# Altium footprint library common.PCBLIB: 88 footprints (part 3 of 6)
Each footprint in its own frame and in the unit in brackets; x right, y up, seen from the top. Pads: shape width x height; smd on the part's side, far side on the other; paste and mask are expansions set on the pad; w line width, h text height; cw(c..) or ccw(c..) is an arc to the next point about the centre after c.
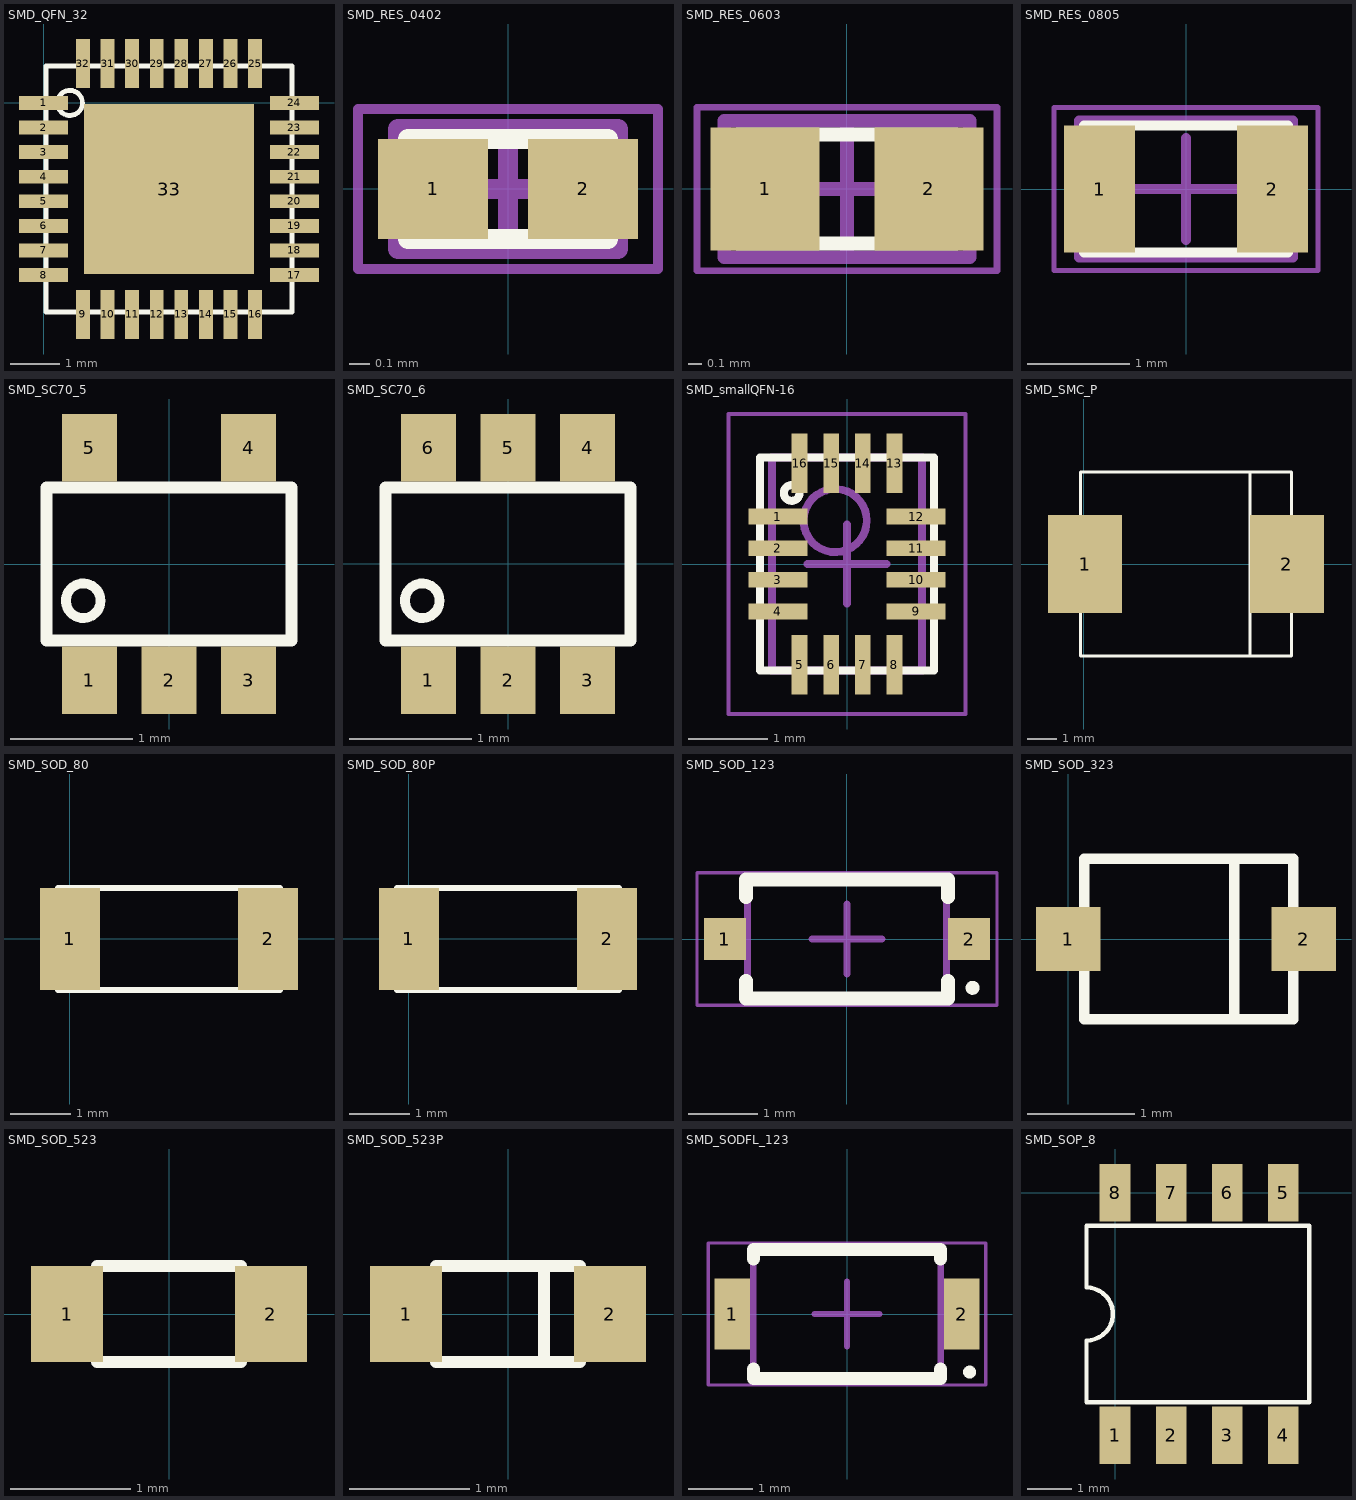
[diagram p2: the footprints below, top view; thin cyan lines are the x and y axes]

## SMD_QFN_32 [mm]
pads (33):
  rect 1x0.28 smd mask+0.05: 1(0,0) 2(0,-0.5) 3(0,-1) 4(0,-1.5) 5(0,-2) 6(0,-2.5) 7(0,-3) 8(0,-3.5) 17(5.1,-3.5) 18(5.1,-3) 19(5.1,-2.5) 20(5.1,-2) 21(5.1,-1.5) 22(5.1,-1) 23(5.1,-0.5) 24(5.1,0)
  rect 0.28x1 smd mask+0.05: 9(0.8,-4.3) 10(1.3,-4.3) 11(1.8,-4.3) 12(2.3,-4.3) 13(2.8,-4.3) 14(3.3,-4.3) 15(3.8,-4.3) 16(4.3,-4.3) 25(4.3,0.8) 26(3.8,0.8) 27(3.3,0.8) 28(2.8,0.8) 29(2.3,0.8) 30(1.8,0.8) 31(1.3,0.8) 32(0.8,0.8)
  rect 3.45x3.45 smd: 33(2.55,-1.75)
Top Overlay:
  circle w0.1: c0.535,0 r0.255
  lines w0.1: 0.05,-4.25 0.05,0.75 5.05,0.75 5.05,-4.25 0.05,-4.25

## SMD_RES_0402 [mm]
height 0.4
pads (2):
  rect 0.55x0.5 smd: 1(-0.375,0) 2(0.375,0)
Top Overlay:
  lines w0.1: -0.5,-0.25 -0.5,0.25 0.5,0.25 0.5,-0.25 -0.5,-0.25
Mechanical 13:
  lines w0.1: -0.55,-0.3 0.55,-0.3 0.55,0.3 -0.55,0.3 -0.55,-0.3
Mechanical 15:
  lines w0.05: -0.75,-0.4 0.75,-0.4 0.75,0.4 -0.75,0.4 -0.75,-0.4
  lines w0.1: -0.3,0 0.3,0 ; 0,-0.3 0,0.3
3D body: height 0.4, standoff 0, extent 0.3,-0.3 0.55,0.3
3D body: height 0.4, standoff 0, extent -0.55,-0.3 -0.3,0.3
3D body: height 0.4, standoff 0, extent -0.3,-0.3 0.3,0.3

## SMD_RES_0603 [mm]
pads (2):
  rect 0.8x0.9 smd: 1(-0.6,0) 2(0.6,0)
Top Overlay:
  lines w0.1: -0.8,-0.4 -0.8,0.4 0.8,0.4 0.8,-0.4 -0.8,-0.4
Mechanical 13:
  lines w0.1: -0.9,-0.5 0.9,-0.5 0.9,0.5 -0.9,0.5 -0.9,-0.5
Mechanical 15:
  lines w0.05: -1.1,-0.6 1.1,-0.6 1.1,0.6 -1.1,0.6 -1.1,-0.6
  lines w0.1: -0.5,0 0.5,0 ; 0,-0.5 0,0.5
3D body: height 0.55, standoff 0, extent 0.6,-0.5 0.9,0.5
3D body: height 0.55, standoff 0, extent -0.9,-0.5 -0.6,0.5
3D body: height 0.55, standoff 0, extent -0.6,-0.5 0.6,0.5

## SMD_RES_0805 [mm]
height 0.6
pads (2):
  rect 0.7x1.25 smd: 1(-0.85,0) 2(0.85,0)
Top Overlay:
  lines w0.1: -1,-0.625 -1,0.625 1,0.625 1,-0.625 -1,-0.625
Mechanical 13:
  lines w0.1: -1.05,-0.675 1.05,-0.675 1.05,0.675 -1.05,0.675 -1.05,-0.675
Mechanical 15:
  lines w0.05: -1.3,-0.8 1.3,-0.8 1.3,0.8 -1.3,0.8 -1.3,-0.8
  lines w0.1: -0.5,0 0.5,0 ; 0,-0.5 0,0.5
3D body: height 0.6, standoff 0, extent 0.7,-0.675 1.05,0.675
3D body: height 0.6, standoff 0, extent -1.05,-0.675 -0.7,0.675
3D body: height 0.6, standoff 0, extent -0.7,-0.675 0.7,0.675

## SMD_SC70_5 [mm] "SMD_SC70_5"
height 0.95
pads (5):
  rect 0.45x0.55 smd: 1(-0.65,-0.95) 2(0,-0.95) 3(0.65,-0.95) 4(0.65,0.95) 5(-0.65,0.95)
Top Overlay:
  circle w0.08: c-0.7,-0.3 r0.141
  lines w0.1: -1,-0.625 -1,0.625 1,0.625 1,-0.625 -1,-0.625

## SMD_SC70_6 [mm] "SMD_SC70_6"
height 0.95
pads (6):
  rect 0.45x0.55 smd: 1(-0.65,-0.95) 2(0,-0.95) 3(0.65,-0.95) 4(0.65,0.95) 5(0,0.95) 6(-0.65,0.95)
Top Overlay:
  circle w0.08: c-0.7,-0.3 r0.141
  lines w0.1: -1,-0.625 -1,0.625 1,0.625 1,-0.625 -1,-0.625

## SMD_smallQFN-16 [mm] "QFN, 16-Leads, Body 1.80x2.60mm, Pitch 0.40mm, IPC Medium Density"
height 0.6
pads (16):
  rect 0.75x0.2 smd: 1(-0.875,0.6) 2(-0.875,0.2) 3(-0.875,-0.2) 4(-0.875,-0.6) 9(0.875,-0.6) 10(0.875,-0.2) 11(0.875,0.2) 12(0.875,0.6)
  rect 0.2x0.75 smd: 5(-0.6,-1.275) 6(-0.2,-1.275) 7(0.2,-1.275) 8(0.6,-1.275) 13(0.6,1.275) 14(0.2,1.275) 15(-0.2,1.275) 16(-0.6,1.275)
Top Overlay:
  circle w0.1: c-0.7,0.9 r0.1
  lines w0.1: -1.1,-1.35 -1.1,1.35 1.1,1.35 1.1,-1.35 -1.1,-1.35
Mechanical 13:
  circle w0.1: c-0.15,0.55 r0.4
  lines w0.1: -0.95,-1.35 -0.95,1.35 0.95,1.35 0.95,-1.35 -0.95,-1.35
Mechanical 15:
  lines w0.05: -1.5,-1.9 -1.5,1.9 1.5,1.9 1.5,-1.9 -1.5,-1.9
  lines w0.1: -0.5,0 0.5,0 ; 0,-0.5 0,0.5
3D body: height 0.6, standoff 0.01, extent -0.95,-1.35 0.95,1.35

## SMD_SMC_P [mm] "SMD_SMC (polarized)"
height 2.5
pads (2):
  rect 2.5x3.3 smd: 1(0.05,0) 2(6.85,0)
Top Overlay:
  lines w0.1: 5.6,-3.05 5.6,3.1 ; -0.1,-3.1 7,-3.1 7,3.1 -0.1,3.1 -0.1,-3.1

## SMD_SOD_80 [mm] "SMD_SOD_80"
pads (2):
  rect 1x1.7 smd: 1(0,0) 2(3.3,0)
Top Overlay:
  lines w0.1: -0.2,-0.85 3.5,-0.85 3.5,0.85 -0.2,0.85 -0.2,-0.85

## SMD_SOD_80P [mm] "SMD_SOD_80P"
pads (2):
  rect 1x1.7 smd: 1(0,0) 2(3.3,0)
Top Overlay:
  lines w0.1: 2.925,-0.85 2.925,0.85 ; -0.2,-0.85 3.5,-0.85 3.5,0.85 -0.2,0.85 -0.2,-0.85

## SMD_SOD_123 [mm]
height 1.35
pads (2):
  rect 0.6x0.6 smd: 1(-1.75,0) 2(1.75,0)
Top Overlay:
  circle w0.1: c1.8,-0.7 r0.05
  lines w0.2: -1.45,-0.6 -1.45,-0.85 1.45,-0.85 1.45,-0.6 ; -1.45,0.6 -1.45,0.85 1.45,0.85 1.45,0.6
Mechanical 13:
  lines w0.1: -1.425,-0.85 1.425,-0.85 1.425,0.85 -1.425,0.85 -1.425,-0.85
Mechanical 15:
  lines w0.05: -2.15,-0.95 2.15,-0.95 2.15,0.95 -2.15,0.95 -2.15,-0.95
  lines w0.1: -0.5,0 0.5,0 ; 0,-0.5 0,0.5
3D body: height 1.35, standoff 0, extent -1.425,-0.85 1.425,0.85

## SMD_SOD_323 [mm] "SMD_SOD_323"
height 1.15
pads (2):
  rect 0.6x0.6 smd: 1(0,0) 2(2.2,0)
Top Overlay:
  lines w0.1: 1.55,-0.7 1.55,0.7 ; 0.15,-0.75 2.1,-0.75 2.1,0.75 0.15,0.75 0.15,-0.75

## SMD_SOD_523 [mm] "SMD_SOD_523"
height 0.6
pads (2):
  rect 0.6x0.8 smd: 1(-0.85,0) 2(0.85,0)
Top Overlay:
  lines w0.1: -0.6,-0.4 0.6,-0.4 0.6,0.4 -0.6,0.4 -0.6,-0.4

## SMD_SOD_523P [mm]
pads (2):
  rect 0.6x0.8 smd: 1(-0.85,0) 2(0.85,0)
Top Overlay:
  lines w0.1: 0.3,-0.4 0.3,0.4 ; -0.6,-0.4 -0.6,0.4 0.6,0.4 0.6,-0.4 -0.6,-0.4

## SMD_SODFL_123 [mm]
height 1.4
pads (2):
  rect 0.55x1.1 smd: 1(-1.775,0) 2(1.775,0)
Top Overlay:
  circle w0.1: c1.9,-0.9 r0.05
  lines w0.2: -1.45,-0.85 -1.45,-1 1.45,-1 1.45,-0.85 ; -1.45,0.85 -1.45,1 1.45,1 1.45,0.85
Mechanical 13:
  lines w0.1: -1.45,-0.975 -1.45,0.975 1.45,0.975 1.45,-0.975 -1.45,-0.975
Mechanical 15:
  lines w0.05: -2.15,-1.1 -2.15,1.1 2.15,1.1 2.15,-1.1 -2.15,-1.1
  lines w0.1: -0.5,0 0.5,0 ; 0,-0.5 0,0.5
3D body: height 1.4, standoff 0, extent -1.45,-0.975 1.45,0.975

## SMD_SOP_8 [mm] "SMD_SOP_8"
pads (8):
  rect 0.7x1.3 smd: 1(0,-5.5) 2(1.27,-5.5) 3(2.54,-5.5) 4(3.81,-5.5) 5(3.81,0) 6(2.54,0) 7(1.27,0) 8(0,0)
Top Overlay:
  lines w0.1: -0.65,-4.75 -0.65,-3.35 ccw(c-0.65,-2.75) -0.65,-2.15 -0.65,-0.75 4.4,-0.75 4.4,-4.75 -0.65,-4.75